# EAGLE library part ATMEGA328P (library pimoroni-ics)
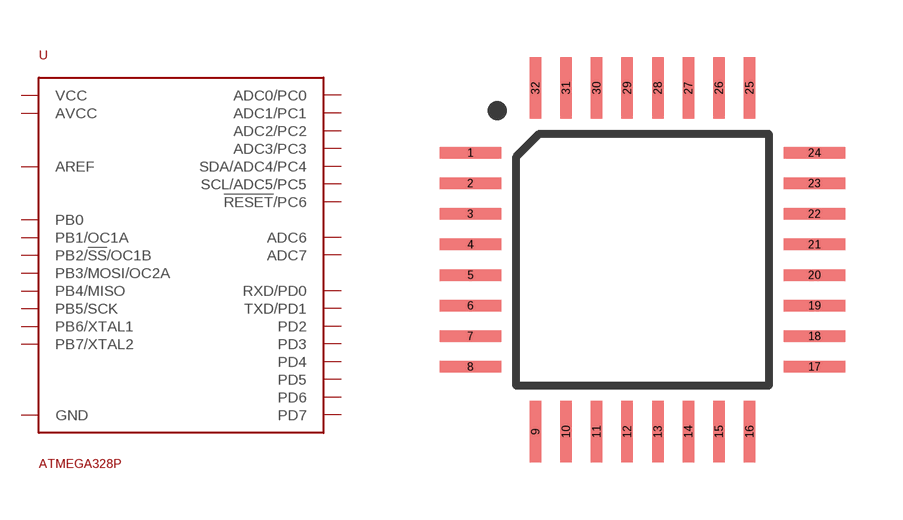
[diagram p21: symbol with the pads of TQFP-32; footprint TQFP-32]

Designator prefix -

## ATMEGA328P  [TQFP-32]
1  PD3
2  PD4
3  GND
4  VCC
5  GND
6  VCC
7  PB6/XTAL1
8  PB7/XTAL2
9  PD5
10  PD6
11  PD7
12  PB0
13  PB1/OC1A
14  PB2/!SS!/OC1B
15  PB3/MOSI/OC2A
16  PB4/MISO
17  PB5/SCK
18  AVCC
19  ADC6
20  AREF
21  GND
22  ADC7
23  ADC0/PC0
24  ADC1/PC1
25  ADC2/PC2
26  ADC3/PC3
27  SDA/ADC4/PC4
28  SCL/ADC5/PC5
29  !RESET!/PC6
30  RXD/PD0
31  TXD/PD1
32  PD2

## Footprint TQFP-32 (pad centres in mm)
smd 1.6 x 0.3: 1 -4.5,2.8; 2 -4.5,2; 3 -4.5,1.2; 4 -4.5,0.4; 5 -4.5,-0.4; 6 -4.5,-1.2; 7 -4.5,-2; 8 -4.5,-2.8; 17 4.5,-2.8; 18 4.5,-2; 19 4.5,-1.2; 20 4.5,-0.4; 21 4.5,0.4; 22 4.5,1.2; 23 4.5,2; 24 4.5,2.8
smd 0.3 x 1.6: 9 -2.8,-4.5; 10 -2,-4.5; 11 -1.2,-4.5; 12 -0.4,-4.5; 13 0.4,-4.5; 14 1.2,-4.5; 15 2,-4.5; 16 2.8,-4.5; 25 2.8,4.5; 26 2,4.5; 27 1.2,4.5; 28 0.4,4.5; 29 -0.4,4.5; 30 -1.2,4.5; 31 -2,4.5; 32 -2.8,4.5